# Altium footprint library STeRG-Passives-Standard.PcbLib: 54 footprints (part 3 of 4)
Each footprint in its own frame and in the unit in brackets; x right, y up, seen from the top. Pads: shape width x height; smd on the part's side, far side on the other; paste and mask are expansions set on the pad; w line width, h text height; cw(c..) or ccw(c..) is an arc to the next point about the centre after c.
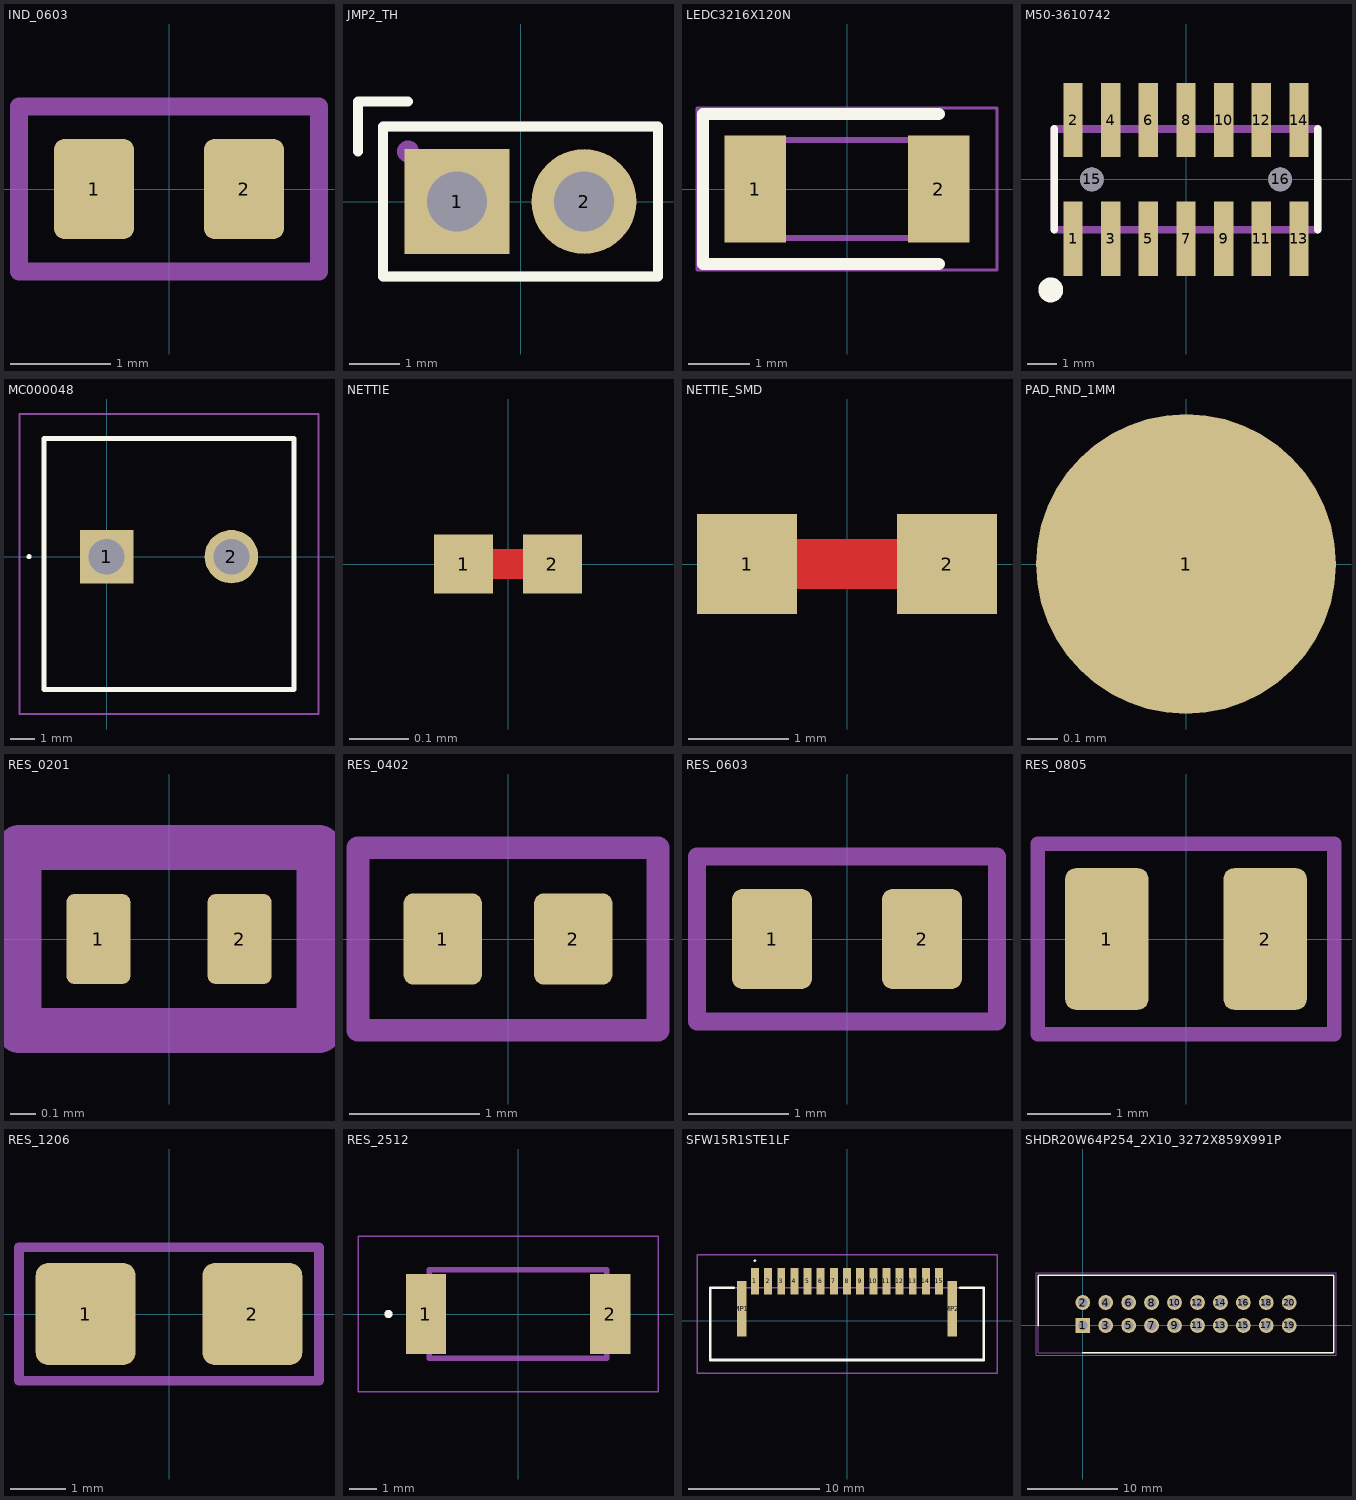
[diagram p2: the footprints below, top view; thin cyan lines are the x and y axes]

## IND_0603 [mm]
pads (2):
  rrect25% 0.8x1 smd: 1(-0.75,0) 2(0.75,0)
Mechanical 13:
  lines w0.175: -1.5,-0.825 -1.5,0.825 1.5,0.825 1.5,-0.825 -1.5,-0.825
  text "'.Designator'" at -5.665,-0.417 h1
3D body "L0603.step": height 0.87, standoff 0.01, extent -0.81,-0.365 0.81,0.365

## JMP2_TH [mm]
pads (2):
  rect 2.1x2.1 hole 1.2: 1(-1.27,0)
  round 2.1 hole 1.2: 2(1.27,0)
Top Overlay:
  lines w0.2: -3.25,1 -3.25,2 -2.25,2 ; -2.75,-1.5 2.75,-1.5 2.75,1.5 -2.75,1.5 -2.75,-1.5
Mechanical 13:
  circle w0.254: c-2.25,1 r0.093
  lines w0.2: -2.75,-1.5 2.75,-1.5 2.75,1.5 -2.75,1.5 -2.75,-1.5
  text ".Designator" at -4.998,-0.333 h1

## LEDC3216X120N [mm]
pads (2):
  rect 1x1.75 smd: 1(-1.5,0) 2(1.5,0)
Top Overlay:
  lines w0.2: 1.5,-1.225 -2.35,-1.225 -2.35,1.225 1.5,1.225
Mechanical 13:
  lines w0.1: -1.6,0.267 -1.067,0.8 ; -1.6,-0.8 -1.6,0.8 1.6,0.8 1.6,-0.8 -1.6,-0.8
  text ".Designator" at -4.741,-0.461 h1
Mechanical 15:
  lines w0.05: -2.45,-1.325 -2.45,1.325 2.45,1.325 2.45,-1.325 -2.45,-1.325
3D body "LHN974 RED LED 1206--3DModel-STEP-269445.STEP": height 1.2, standoff 0, extent -1.575,-0.8 1.625,0.8

## M50-3610742 [mm]
pads (16):
  rect 0.65x2.5 smd: 1(-3.81,-2) 2(-3.81,2) 3(-2.54,-2) 4(-2.54,2) 5(-1.27,-2) 6(-1.27,2) 7(0,-2) 8(0,2) 9(1.27,-2) 10(1.27,2) 11(2.54,-2) 12(2.54,2) 13(3.81,-2) 14(3.81,2)
  round 0.8 hole 0.8 unplated: 15(-3.175,0) 16(3.175,0)
Top Overlay:
  circle w0.5: c-4.562,-3.728 r0.169
  lines w0.254: -4.445,-1.7 -4.445,1.7 ; 4.445,-1.7 4.445,1.7
Mechanical 13:
  lines w0.254: -4.445,-1.7 4.445,-1.7 4.445,1.7 -4.445,1.7 -4.445,-1.7
3D body "M50-3610742.stp": height 4.71, standoff -0.79, extent -4.455,-2.75 4.435,2.75

## MC000048 [mm]
pads (2):
  rect 2.175x2.175 hole 1.45: 1(0,0)
  round 2.175 hole 1.45: 2(5.08,0)
Top Overlay:
  lines w0.1: -3.2,0 cw(c-3.15,0) -3.1,0 cw(c-3.15,0) -3.2,0
  lines w0.2: -2.54,-5.4 -2.54,4.8 7.62,4.8 7.62,-5.4 -2.54,-5.4
Mechanical 13:
  lines w0.1: -2.54,-5.4 -2.54,4.8 7.62,4.8 7.62,-5.4 -2.54,-5.4
  text ".Designator" at -2.074,2.841 h1
Mechanical 15:
  lines w0.1: -3.54,-6.4 -3.54,5.8 8.62,5.8 8.62,-6.4 -3.54,-6.4
3D body "MC000048.stp": height 14.06, standoff -3.44, extent -2.54,-4.74 7.62,5.46

## NETTIE [mm]
pads (2):
  rect 0.1x0.1 smd paste-1 mask-1: 1(-0.075,0) 2(0.075,0)
Top Layer:
  rectangle: -0.048,-0.025 0.048,0.025

## NETTIE_SMD [mm]
pads (2):
  rect 1x1 smd mask-10: 1(-1,0) 2(1,0)
Top Layer:
  rectangle: -0.75,-0.25 0.75,0.25

## PAD_RND_1MM [mm]
pads (1):
  round 1 smd paste-0.5 mask+0: 1(0,0)

## RES_0201 [mm]
pads (2):
  rrect25% 0.25x0.35 smd mask+0.05: 1(-0.275,0) 2(0.275,0)
Mechanical 13:
  lines w0.175: -0.584,-0.356 -0.584,0.356 0.584,0.356 0.584,-0.356 -0.584,-0.356
  text "'.Designator'" at -5.665,-0.417 h1
3D body "RES0201.stp": height 0.3, standoff 0, extent -0.3,-0.127 0.3,0.173

## RES_0402 [mm]
pads (2):
  rrect25% 0.6x0.7 smd: 1(-0.5,0) 2(0.5,0)
Mechanical 13:
  lines w0.175: -1.15,-0.7 1.15,-0.7 1.15,0.7 -1.15,0.7 -1.15,-0.7
  text "'.Designator'" at -5.665,-0.417 h1
3D body "R0402.step": height 0.3, standoff 0, extent -0.5,-0.25 0.5,0.25

## RES_0603 [mm]
pads (2):
  rrect25% 0.8x1 smd: 1(-0.75,0) 2(0.75,0)
Mechanical 13:
  lines w0.175: -1.5,-0.825 1.5,-0.825 1.5,0.825 -1.5,0.825 -1.5,-0.825
  text "'.Designator'" at -5.665,-0.417 h1
3D body "RES0603.stp": height 0.45, standoff 0, extent -0.8,-0.4 0.8,0.4

## RES_0805 [mm]
pads (2):
  rrect25% 1x1.7 smd: 1(-0.95,0) 2(0.95,0)
Mechanical 13:
  lines w0.175: -1.778,-1.143 -1.778,1.143 1.778,1.143 1.778,-1.143 -1.778,-1.143
  text "'.Designator'" at -5.665,-0.417 h1
3D body "RES0805.stp": height 0.5, standoff 0, extent -1,-0.63 1,0.62

## RES_1206 [mm]
pads (2):
  rrect25% 1.8x1.84 smd: 1(-1.5,0) 2(1.5,0)
Mechanical 13:
  lines w0.175: -2.7,-1.2 2.7,-1.2 2.7,1.2 -2.7,1.2 -2.7,-1.2
  text "'.Designator'" at -5.665,-0.417 h1
3D body "RES1206.stp": height 0.55, standoff 0, extent -1.55,-0.762 1.55,0.79

## RES_2512 [mm]
pads (2):
  rect 1.45x2.9 smd: 1(-3.325,0) 2(3.325,0)
Top Overlay:
  circle w0.2: c-4.675,0 r0.05
Mechanical 13:
  lines w0.2: -3.2,-1.6 3.2,-1.6 3.2,1.6 -3.2,1.6 -3.2,-1.6
  text ".Designator" at -4.868,-0.461 h1
Mechanical 15:
  lines w0.05: -5.775,-2.8 5.05,-2.8 5.05,2.8 -5.775,2.8 -5.775,-2.8
3D body "ERJ-1TRQF2R0U.stp": height 0.6, standoff 0, extent -3.2,-1.6 3.2,1.6

## SFW15R1STE1LF [mm]
pads (17):
  rect 0.6x2 smd: 1(-7,3) 2(-6,3) 3(-5,3) 4(-4,3) 5(-3,3) 6(-2,3) 7(-1,3) 8(0,3) 9(1,3) 10(2,3) 11(3,3) 12(4,3) 13(5,3) 14(6,3) 15(7,3)
  rect 0.7x4.2 smd: MP1(-8,0.9) MP2(8,0.9)
Top Overlay:
  lines w0.1: -7,4.5 cw(c-7,4.55) -7,4.6 cw(c-7,4.55) -7,4.5
  lines w0.2: -8.6,2.5 -10.4,2.5 -10.4,-3 10.4,-3 10.4,2.5 8.6,2.5
Mechanical 13:
  lines w0.1: -10.4,-3 10.4,-3 10.4,2.5 -10.4,2.5 -10.4,-3
Mechanical 15:
  lines w0.1: -11.4,-4 11.4,-4 11.4,5 -11.4,5 -11.4,-4
3D body "SFW15R-1STE1LF.stp": height 2.7, standoff 0, extent -10.4,-2.75 10.4,3.75

## SHDR20W64P254_2X10_3272X859X991P [mm]
pads (20):
  rect 1.65x1.65 hole 1.1: 1(0,0)
  round 1.65 hole 1.1: 2(0,2.54) 3(2.54,0) 4(2.54,2.54) 5(5.08,0) 6(5.08,2.54) 7(7.62,0) 8(7.62,2.54) 9(10.16,0) 10(10.16,2.54) 11(12.7,0) 12(12.7,2.54) 13(15.24,0) 14(15.24,2.54) 15(17.78,0) 16(17.78,2.54) 17(20.32,0) 18(20.32,2.54) 19(22.86,0) 20(22.86,2.54)
Top Overlay:
  lines w0.2: -4.93,0 -4.93,5.565 27.79,5.565 27.79,-3.025 0,-3.025
Mechanical 13:
  lines w0.1: -4.93,-3.025 -4.93,5.565 27.79,5.565 27.79,-3.025 -4.93,-3.025
  text ".Designator" at -4.106,3.984 h1
Mechanical 15:
  lines w0.05: -5.18,-3.275 -5.18,5.815 28.04,5.815 28.04,-3.275 -5.18,-3.275
3D body "N2520-6002-RB.stp": height 9.91, standoff -2.84, extent -4.93,-3.025 27.79,5.565